# EAGLE library part MCP33121 (library mcp33121)
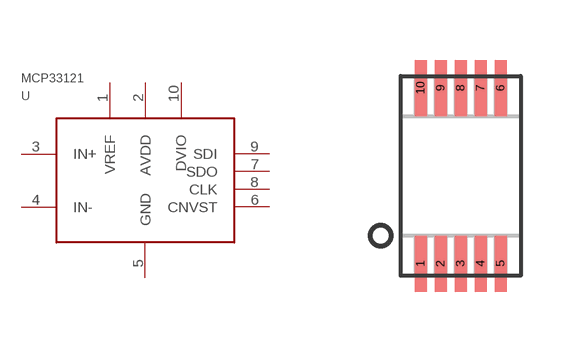
[diagram p0: symbol with the pads of MSOP10; footprint MSOP10]

Designator prefix -

## MCP33121  [MSOP10]
1  VREF
2  AVDD
3  IN+
4  IN-
5  GND
6  CNVST
7  SDO
8  CLK
9  SDI
10  DVIO

## Footprint MSOP10 (pad centres in mm)
smd 0.3 x 1.4: 1 -1,-2.2; 2 -0.5,-2.2; 3 0,-2.2; 4 0.5,-2.2; 5 1,-2.2; 6 1,2.2; 7 0.5,2.2; 8 0,2.2; 9 -0.5,2.2; 10 -1,2.2